# Altium integrated library 1586039-6.IntLib: 1 symbol
Pins are listed as number, name and electrical type; pins without a type are passive.

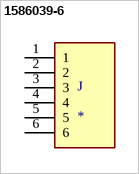
[diagram p0: symbol 1586039-6]

## 1586039-6
designator J
VAL-U-LOK Series, 4.2mm Pitch 6Way 2 RowStraight PCB Header, Through Hole Term, 9A; MP: 1586039-6; MF: TE Connectivity; EU_RoHS_Compliance: Compliant; Price: None; SnapEDA_Link: https://www.snapeda.com/parts/1586039-6/TE%20Connectivity%20AMP%20Connectors/view-part/581423/?ref=snap; Package: None; DigiKey-Purchase-URL: https://snapeda.com/shop?store=DigiKey&id=581423; Arrow_Electronics-Purchase-URL: https://snapeda.com/shop?store=Arrow+Electronics&id=581423; Value: *; Mouser-Purchase-URL: https://snapeda.com/shop?store=Mouser&id=581423; Availability: Good
footprint TE_1586039-6
pins: 1, 2, 3, 4, 5, 6